# EAGLE library part REF200 (library burr-brown)
Dual Current Source/Current Sink
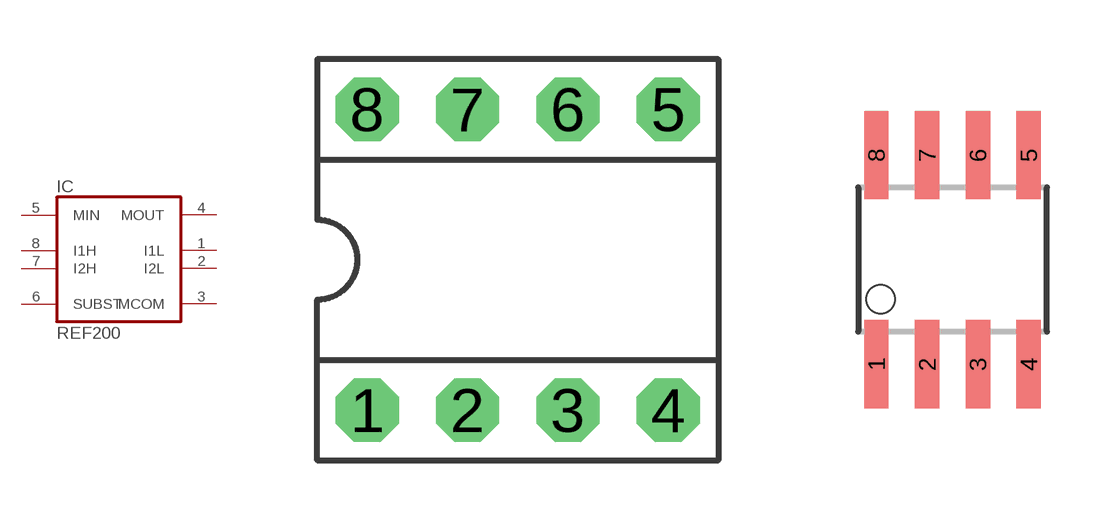
[diagram p114: symbol with the pads of DIL08; footprints DIL08, SO08]

Designator prefix IC

## REF200P  [DIL08]
1  I1L  pas
2  I2L  pas
3  MCOM  pas
4  MOUT  out
5  MIN  in
6  SUBST  pas
7  I2H  pas
8  I1H  pas

## REF200U  [SO08]
Pads as for DIL08

## Footprint DIL08 (pad centres in mm)
Dual In Line
drill 0.813 pad 1.6 octagon: 1 -3.81,-3.81; 2 -1.27,-3.81; 3 1.27,-3.81; 4 3.81,-3.81; 5 3.81,3.81; 6 1.27,3.81; 7 -1.27,3.81; 8 -3.81,3.81

## Footprint SO08 (pad centres in mm)
Small Outline Package
smd 0.61 x 2.21: 1 -1.905,-2.616; 2 -0.635,-2.616; 3 0.635,-2.616; 4 1.905,-2.616; 5 1.905,2.616; 6 0.635,2.616; 7 -0.635,2.616; 8 -1.905,2.616